# EAGLE library part M06 (library pierre_vv)
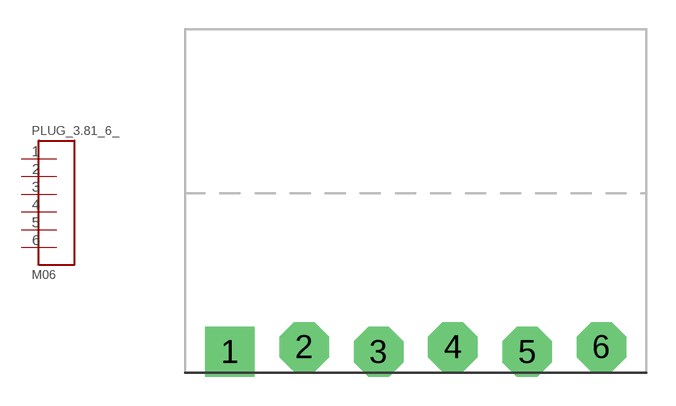
[diagram p12: symbol with the pads of PLUG_06; footprint PLUG_06]

Designator prefix PLUG_3.81_6_

## M06  [PLUG_06]
1  1
2  2
3  3
4  4
5  5
6  6

## Footprint PLUG_06 (pad centres in mm)
drill 1.2 pad 2.54 square: 1 -9.525,-0.127
drill 1.2 pad 2.54 octagon: 2 -5.715,0.127; 3 -1.905,-0.127; 4 1.905,0.127; 5 5.715,-0.127; 6 9.525,0.127